# Altium footprint library PcbLib_N.PcbLib: 4 footprints
Each footprint in its own frame and in the unit in brackets; x right, y up, seen from the top. Pads: shape width x height; smd on the part's side, far side on the other; paste and mask are expansions set on the pad; w line width, h text height; cw(c..) or ccw(c..) is an arc to the next point about the centre after c.
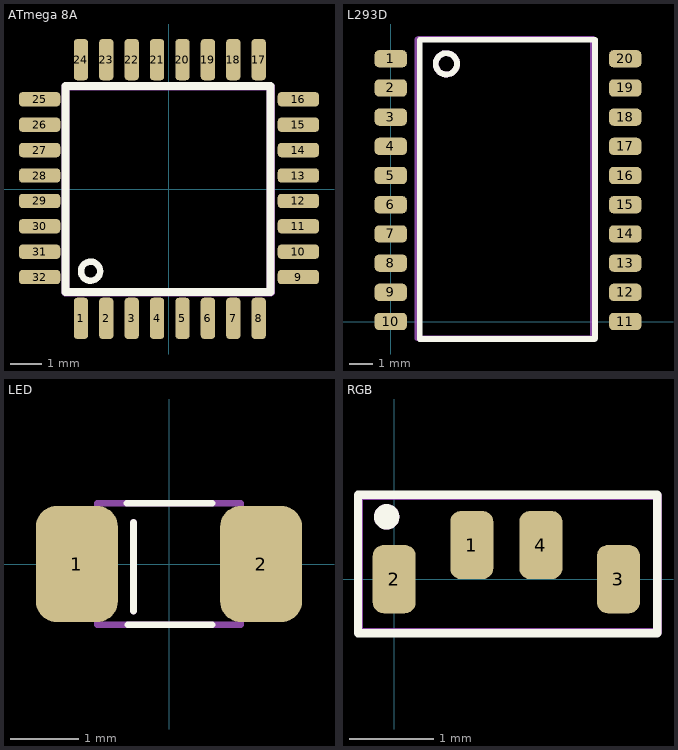
[diagram p0: the footprints below, top view; thin cyan lines are the x and y axes]

## ATmega 8A [mm]
pads (32):
  rrect50% 0.45x1.3 smd: 1(-2.775,-4.075) 2(-1.975,-4.075) 3(-1.175,-4.075) 4(-0.375,-4.075) 5(0.425,-4.075) 6(1.225,-4.075) 7(2.025,-4.075) 8(2.825,-4.075) 17(2.825,4.075) 18(2.025,4.075) 19(1.225,4.075) 20(0.425,4.075) 21(-0.375,4.075) 22(-1.175,4.075) 23(-1.975,4.075) 24(-2.775,4.075)
  rrect50% 1.3x0.45 smd: 9(4.075,-2.775) 10(4.075,-1.975) 11(4.075,-1.175) 12(4.075,-0.375) 13(4.075,0.425) 14(4.075,1.225) 15(4.075,2.025) 16(4.075,2.825) 25(-4.075,2.825) 26(-4.075,2.025) 27(-4.075,1.225) 28(-4.075,0.425) 29(-4.075,-0.375) 30(-4.075,-1.175) 31(-4.075,-1.975) 32(-4.075,-2.775)
Top Overlay:
  circle w0.2: c-2.47,-2.59 r0.3
  lines w0.254: -3.265,-3.245 -3.265,3.245 3.195,3.245 3.195,-3.245 -3.265,-3.245
  text ".Designator" at -1.415,-2.746 h0.85
Mechanical29:
  circle w0.1: c-2.44,-2.58 r0.306
  lines w0.254: -3.255,-3.265 -3.255,3.225 3.205,3.225 3.205,-3.265 -3.255,-3.265
  text ".Designator" at -1.445,-2.716 h0.85
3D body "1310270.stp": height 1.1, standoff 0, extent -4.485,-4.505 4.515,4.495

## L293D [mm]
pads (20):
  rrect50% 1.4x0.75 smd: 1(0,11.43) 2(0,10.16) 3(0,8.89) 4(0,7.62) 5(0,6.35) 6(0,5.08) 7(0,3.81) 8(0,2.54) 9(0,1.27) 10(0,0) 11(10.2,0) 12(10.2,1.27) 13(10.2,2.54) 14(10.2,3.81) 15(10.2,5.08) 16(10.2,6.35) 17(10.2,7.62) 18(10.2,8.89) 19(10.2,10.16) 20(10.2,11.43)
Top Overlay:
  circle w0.254: c2.42,11.21 r0.462
  lines w0.254: 1.26,12.24 1.26,-0.76 8.86,-0.76 ; 1.29,12.26 8.89,12.26 8.89,-0.74
  text ".Designator" at 1.86,0.065 h1.2
Mechanical29:
  circle w0.254: c2.42,11.21 r0.462
  lines w0.254: 1.17,12.27 1.17,-0.73 8.77,-0.73 ; 1.2,12.29 8.8,12.29 8.8,-0.71
  text ".Designator" at 1.89,-0.005 h1.2
3D body "SO-20_STM.step": height 2.64, standoff 0, extent -0.21,-0.802 10.432,12.202

## LED [mm]
pads (2):
  rrect50% 1.2x1.7 smd: 1(-1.35,0) 2(1.35,0)
Top Overlay:
  lines w0.1: -0.62,0.89 0.63,0.89 ; -0.6,-0.89 0.63,-0.89 ; -0.52,-0.69 -0.52,0.61
  text ".Designator" at 0.01,-1.285 h0.4
Mechanical29:
  lines w0.1: -0.52,-0.69 -0.52,0.61 ; -1.05,-0.89 -1.05,0.89 1.05,0.89 1.05,-0.89 -1.05,-0.89
  text ".Designator" at 0,-1.295 h0.4
3D body "LED_8270-107F_DIA.step": height 0.71, standoff 0, extent -1.61,-0.813 1.59,0.793

## RGB [mm]
pads (4):
  rrect50% 0.51x0.81 smd: 1(0.92,0.405) 2(0,0) 3(2.66,0) 4(1.74,0.405)
Top Overlay:
  circle w0.2: c-0.09,0.74 r0.05
  lines w0.1: -0.43,-0.64 -0.43,1 3.12,1 3.12,-0.64 -0.43,-0.64
  text ".Designator" at 1,-1.126 h0.5
Mechanical29:
  circle w0.2: c-0.09,0.74 r0.05
  lines w0.1: -0.42,-0.63 3.13,-0.63 3.13,0.99 -0.42,0.99 -0.42,-0.63
  text ".Designator" at 0.95,-1.136 h0.5
3D body "EASV3015RGBA0--3DModel-STEP-56544.STEP": height 1.5, standoff 0, extent -0.11,-0.36 2.89,0.74